# Altium footprint library Flanery.PcbLib: 125 footprints (part 4 of 8)
Each footprint in its own frame and in the unit in brackets; x right, y up, seen from the top. Pads: shape width x height; smd on the part's side, far side on the other; paste and mask are expansions set on the pad; w line width, h text height; cw(c..) or ccw(c..) is an arc to the next point about the centre after c.
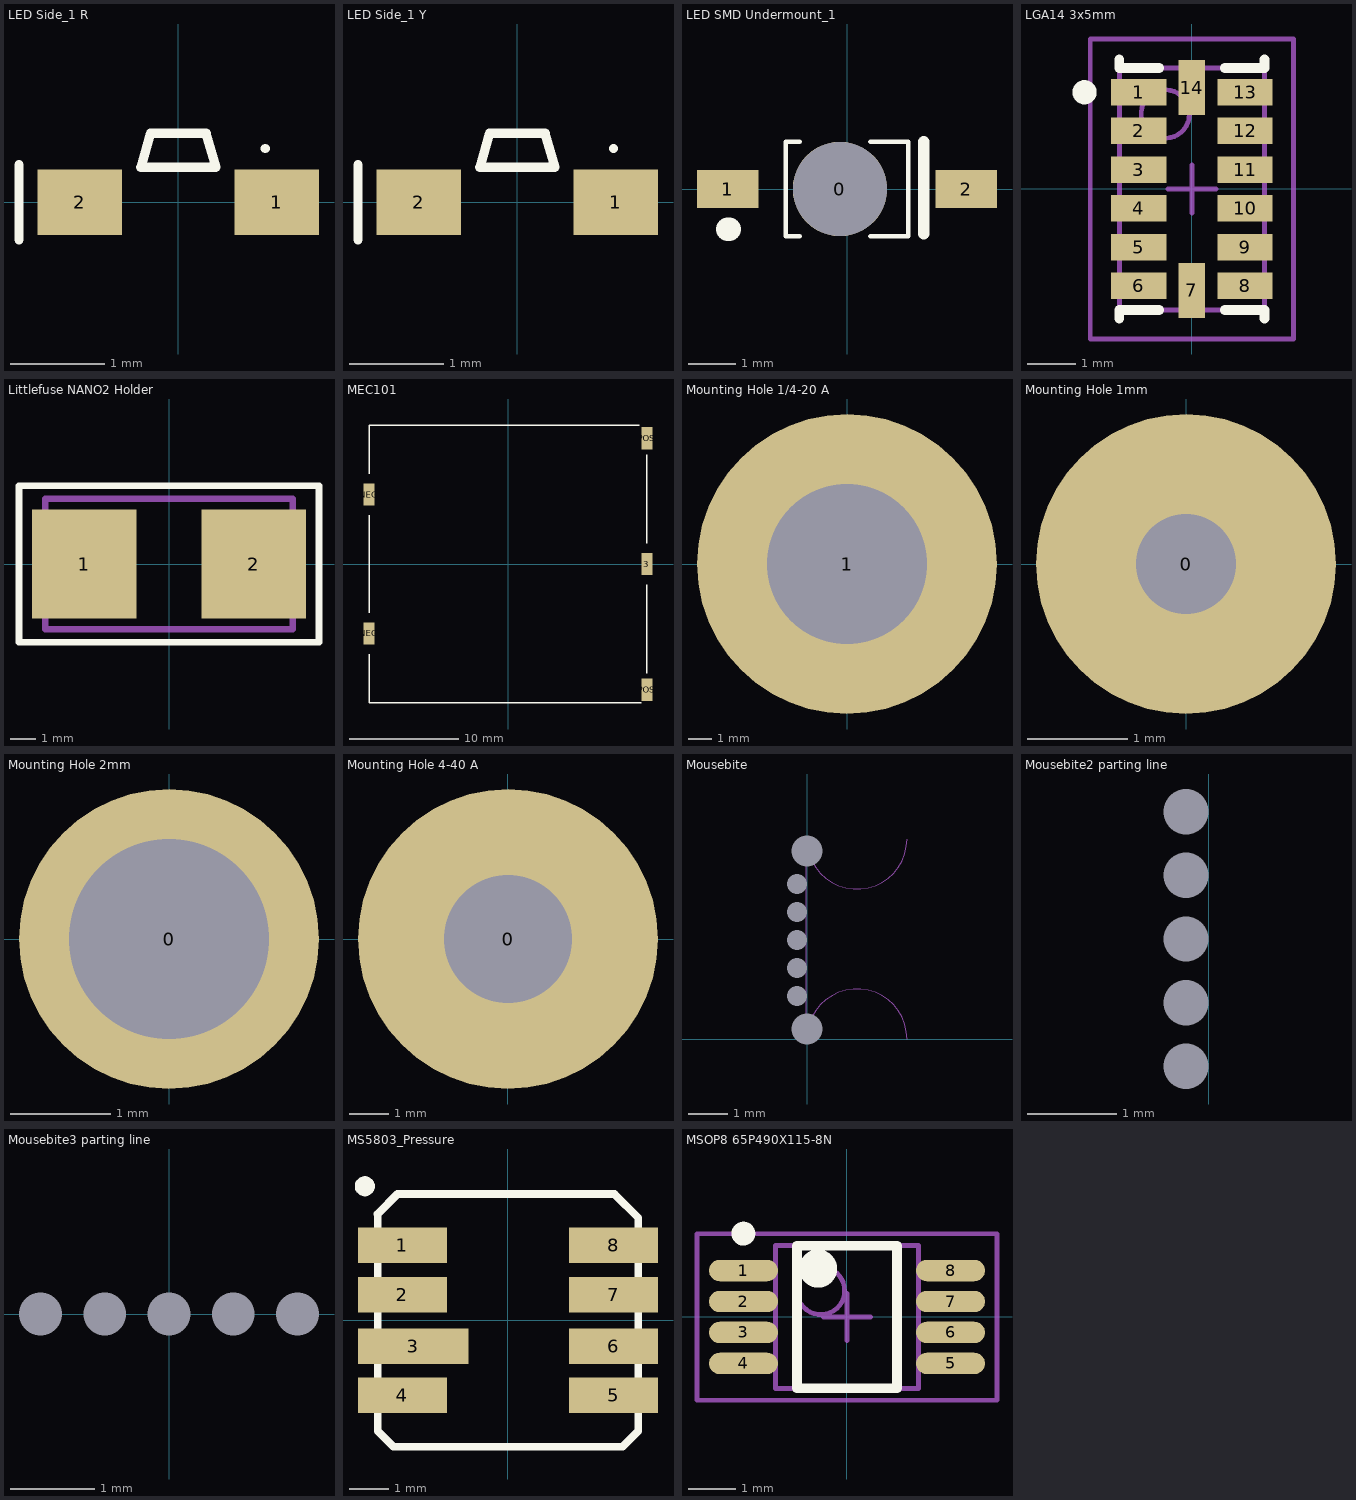
[diagram p3: the footprints below, top view; thin cyan lines are the x and y axes]

## LED Side_1 R [mm] "Side-Emitting Red Panasonic LNJ"
height 0.5
pads (2):
  rect 0.9x0.7 smd: 1(1.05,0) 2(-1.05,0)
Top Overlay:
  lines w0.1: -1.7,-0.4 -1.7,0.4 ; -0.4,0.375 -0.297,0.737 0.297,0.737 0.4,0.375 -0.4,0.375 ; 0.925,0.575 0.925,0.576
3D body: height 0.49, standoff 0.06, extent -0.471,-0.406 -0.319,-0.356
3D body: height 0.5, standoff 0.05, extent -0.673,0.381 0.699,0.737
3D body: height 0.5, standoff 0.05, extent -0.914,-0.381 0.914,0.381

## LED Side_1 Y [mm] "Side-Emitting Yellow Panasonic LNJ"
height 0.5
pads (2):
  rect 0.9x0.7 smd: 1(1.05,0) 2(-1.05,0)
Top Overlay:
  lines w0.1: -1.7,-0.4 -1.7,0.4 ; -0.4,0.375 0.4,0.375 0.297,0.737 -0.297,0.737 -0.4,0.375 ; 1.025,0.575 1.025,0.576
3D body: height 0.49, standoff 0.06, extent -0.471,-0.406 -0.319,-0.356
3D body: height 0.5, standoff 0.05, extent -0.914,-0.381 0.914,0.381
3D body: height 0.5, standoff 0.05, extent -0.673,0.381 0.699,0.737

## LED SMD Undermount_1 [mm] "Undermount LED"
height 1.4
pads (3):
  round 2 hole 2 paste-2: 0(-0.15,0)
  rect 1.3x0.8 smd: 1(-2.53,0) 2(2.53,0)
Top Overlay:
  lines w0.1: -1,-1 -1.3,-1 -1.3,1 -1,1 ; 0.5,-1 1.3,-1 1.3,1 0.5,1
  lines w0.25: 1.625,-0.95 1.625,1
  lines w0.5: -2.525,-0.85 -2.5,-0.85
3D body: height 0.1, standoff -1.3, extent -1.093,-0.948 0.8,0.948
3D body: height 1.4, standoff 0, extent -1.3,-1 1.3,1

## LGA14 3x5mm [mm] "For ADXL345 Accelerometer"
height 1
pads (14):
  rect 1.145x0.55 smd: 1(-1.098,2) 2(-1.098,1.2) 3(-1.098,0.4) 4(-1.098,-0.4) 5(-1.098,-1.2) 6(-1.098,-2) 8(1.097,-2) 9(1.097,-1.2) 10(1.097,-0.4) 11(1.097,0.4) 12(1.097,1.2) 13(1.097,2)
  rect 0.55x1.145 smd: 7(0,-2.098) 14(0,2.097)
Top Overlay:
  circle w0.25: c-2.22,2 r0.125
  lines w0.2: -1.5,-2.675 -1.5,-2.5 -0.675,-2.5 ; -1.5,2.675 -1.5,2.5 -0.675,2.5 ; 0.675,-2.5 1.5,-2.5 1.5,-2.675 ; 0.675,2.5 1.5,2.5 1.5,2.675
Mechanical 13:
  circle w0.1: c-0.55,1.55 r0.5
  lines w0.1: -1.5,-2.5 -1.5,2.5 1.5,2.5 1.5,-2.5 -1.5,-2.5
Mechanical 15:
  lines w0.1: -0.5,0 0.5,0 ; 0,-0.5 0,0.5 ; -2.1,-3.1 -2.1,3.1 2.1,3.1 2.1,-3.1 -2.1,-3.1
3D body: height 1.01, standoff 0, extent -1.225,1.873 -0.826,2.272
3D body: height 1, standoff 0.05, extent -1.5,-2.5 1.5,2.5
3D body: height 1.01, standoff 0, extent -1.475,-2.474 1.473,2.464

## Littlefuse NANO2 Holder [mil] "very small SMD fuse holder"
height 150
pads (2):
  rect 160x167 smd: 1(-130,0) 2(130,0)
Top Overlay:
  lines w10: -230,-120 -230,120 230,120 230,-120 -230,-120
Mechanical 1:
  lines w10: -190,-100 -190,100 190,100 190,-100 -190,-100
3D body: height 150, standoff 0, extent -189.98,-99.98 189.98,99.98

## MEC101 [mil] "Infinite Power Solutions Micro Energy Cell 1\"x1\""
height 6.69
pads (5):
  rect 40x80 smd: 3(500,0) NEG(-500,-250) NEG(-500,250) POS(500,-452.76) POS(500,452.76)
Top Overlay:
  lines w5: -500,-325 -500,-500 480.31,-500 ; -500,-175 -500,175 ; -500,325 -500,500 472.44,500 ; 500,-393.7 500,-75 ; 500,75 500,393.7
3D body: height 7, standoff 0, extent -500.98,-499.02 499.02,500.98

## Mounting Hole 1/4-20 A [mil] "1/4-20 Clearance, loose fit"
pads (1):
  round 500 hole 266: 1(0,0)

## Mounting Hole 1mm [mm] "1mm hole for thread or suture"
pads (1):
  round 3 hole 1: 0(0,0)

## Mounting Hole 2mm [mm] "2mm hole for thread or suture"
pads (1):
  round 3 hole 2: 0(0,0)

## Mounting Hole 4-40 A [mil] "4-40 Clearance, loose fit"
pads (1):
  round 300 hole 128 paste-20 mask+4: 0(0,0)

## Mousebite [mil] "perforation drill pattern for mousebite"
pads (7):
  round 0 hole 20 unplated mask+10: MB(-10,43) MB(-10,71) MB(-10,99) MB(-10,127) MB(-10,155)
  round 0 hole 31 unplated mask+16: MB(0,10) MB(0,188)
Mechanical 1:
  lines w1: -1,15 -1,201 ; 0,0 cw(c50,0) 100,0 ; 0,200 ccw(c50,200) 100,200

## Mousebite2 parting line [mil] "perforation drill pattern for perforation snap-line"
pads (5):
  round 0 hole 20 unplated mask+10: MB(-10,43) MB(-10,71) MB(-10,99) MB(-10,127) MB(-10,155)

## Mousebite3 parting line [mil] "20mil hole, 30mil spacing, perforation drill pattern for perforation snap-line"
pads (5):
  round 0 hole 20 unplated mask+10: MB(-60,0) MB(-30,0) MB(0,0) MB(30,0) MB(60,0)

## MS5803_Pressure [mm] "MS5803 Measurment Specialties Depth/Altitude Sensors"
height 2.9
pads (8):
  rect 2.25x0.9 smd: 1(-2.675,1.9) 2(-2.675,0.65) 4(-2.675,-1.9) 5(2.675,-1.9) 6(2.675,-0.65) 7(2.675,0.65) 8(2.675,1.9)
  rect 2.8x0.9 smd: 3(-2.4,-0.65)
Top Overlay:
  circle w0.254: c-3.627,3.4 r0.127
  lines w0.2: -3.3,2.7 -3.3,-2.8 -2.9,-3.2 2.9,-3.2 3.3,-2.8 3.3,2.6 2.7,3.2
  lines w0.203: -3.3,2.7 -2.8,3.2 2.7,3.2
3D body: height 2.9, standoff 0.1, extent -2.9,-2.9 2.877,2.889
3D body: height 0.64, standoff 0.02, extent -3.301,-3.201 3.301,3.201
3D body: height 0.64, standoff 0.3, extent -2.8,2.5 -2.302,2.999

## MSOP8 65P490X115-8N [mm] "MSOP, 8-Leads, Body 3.0x3.0mm (max), Pitch 0.65mm, IPC Medium Density"
height 1.15
pads (8):
  oval 1.45x0.45 smd: 1(-2.175,0.975) 2(-2.175,0.325) 3(-2.175,-0.325) 4(-2.175,-0.975) 5(2.175,-0.975) 6(2.175,-0.325) 7(2.175,0.325) 8(2.175,0.975)
Top Overlay:
  circle w0.25: c-2.175,1.75 r0.125
  lines w0.2: -1.05,-1.5 1.05,-1.5 1.05,1.5 -1.05,1.5 -1.05,-1.5
  lines w0.6: -0.509,1.032 ccw(c-0.608,1.016) -0.508,1.016
Mechanical 13:
  circle w0.1: c-0.55,0.55 r0.5
  lines w0.1: -1.5,-1.5 1.5,-1.5 1.5,1.5 -1.5,1.5 -1.5,-1.5
Mechanical 15:
  lines w0.1: -0.5,0 0.5,0 ; 0,-0.5 0,0.5 ; -3.15,-1.75 3.15,-1.75 3.15,1.75 -3.15,1.75 -3.15,-1.75
3D body: height 1.15, standoff 0.13, extent -1.5,-1.5 1.5,1.5

## MSP430F2012IRSA [mm] "Microcontroller QFN16"
height 0.025